# EAGLE library part TCAN3414DR (library TCAN3414DR)
3.3-V CAN FD transceiver with shut-down and standby mode Source: Datasheet <https://www.ti.com/lit/ds/symlink/tcan3414.pdf?ts=1713723144569&ref_url=https%3A%2F%2Fwww.mouser.ch%2F>
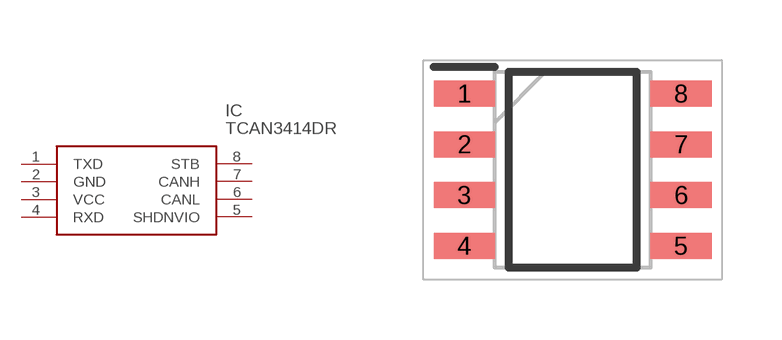
[diagram p0: symbol with the pads of SOIC127P600X175-8N; footprint SOIC127P600X175-8N]

Designator prefix IC

## TCAN3414DR (Description: 3.3-V CAN FD transceiver with shut-down and standby mode; Height: 1.75mm; Manufacturer_Name: Texas Instruments; Manufacturer_Part_Number: TCAN3414DR; Mouser_Part_Number: 595-TCAN3414DR; Mouser_Price-Stock: https://www.mouser.co.uk/ProductDetail/Texas-Instruments/TCAN3414DR?qs=mELouGlnn3egF2AojRJddw%3D%3D)  [SOIC127P600X175-8N]
1  TXD
2  GND
3  VCC
4  RXD
5  SHDNVIO
6  CANL
7  CANH
8  STB

## Footprint SOIC127P600X175-8N (pad centres in mm)
D0008A
smd 1.528 x 0.65: 1 -2.711,1.905; 2 -2.711,0.635; 3 -2.711,-0.635; 4 -2.711,-1.905; 5 2.711,-1.905; 6 2.711,-0.635; 7 2.711,0.635; 8 2.711,1.905